# Altium schematic symbol library TRANS_VI.SchLib: 1 symbol
Pins are listed as number, name and electrical type; pins without a type are passive.

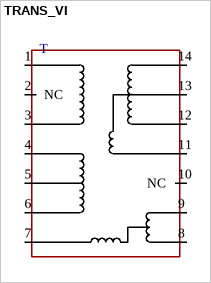
[diagram p0: symbol TRANS_VI]

## TRANS_VI
designator T
pins: 1 A, 2 NC, 3 A, 4 A, 5 A, 6 A, 7 A, 8 A, 9 A, 10 NC, 11 A, 12 A, 13 A, 14 A